# Altium footprint library HEAD.PcbLib: 1 footprints
Each footprint in its own frame and in the unit in brackets; x right, y up, seen from the top. Pads: shape width x height; smd on the part's side, far side on the other; paste and mask are expansions set on the pad; w line width, h text height; cw(c..) or ccw(c..) is an arc to the next point about the centre after c.
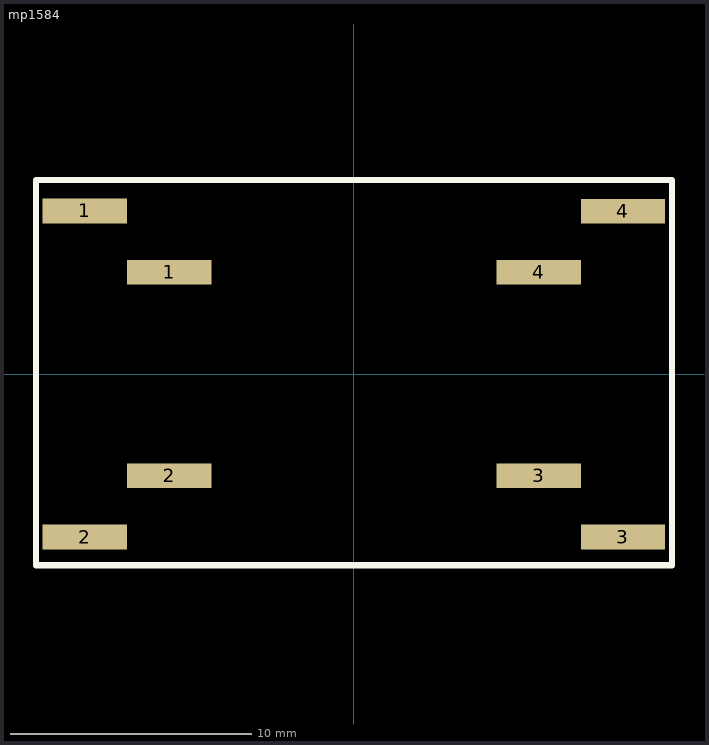
[diagram p0: the footprint, top view; thin cyan lines are the x and y axes]

## mp1584 [mm]
pads (8):
  rect 3.5x1.02 smd: 1(-11.161,6.761) 1(-7.661,4.211) 2(-11.161,-6.761) 2(-7.661,-4.221) 3(7.661,-4.221) 3(11.161,-6.761) 4(7.661,4.211) 4(11.161,6.751)
Top Overlay:
  lines w0.254: -13.191,-7.93 13.201,-7.93 13.201,8.047 -13.191,8.047 -13.191,-7.93
3D body "REG.step": height 2.4, standoff 0, extent -10.727,-7.926 10.673,8.074